# Altium integrated library allwinner.IntLib: 6 symbols
Pins are listed as number, name and electrical type; pins without a type are passive.

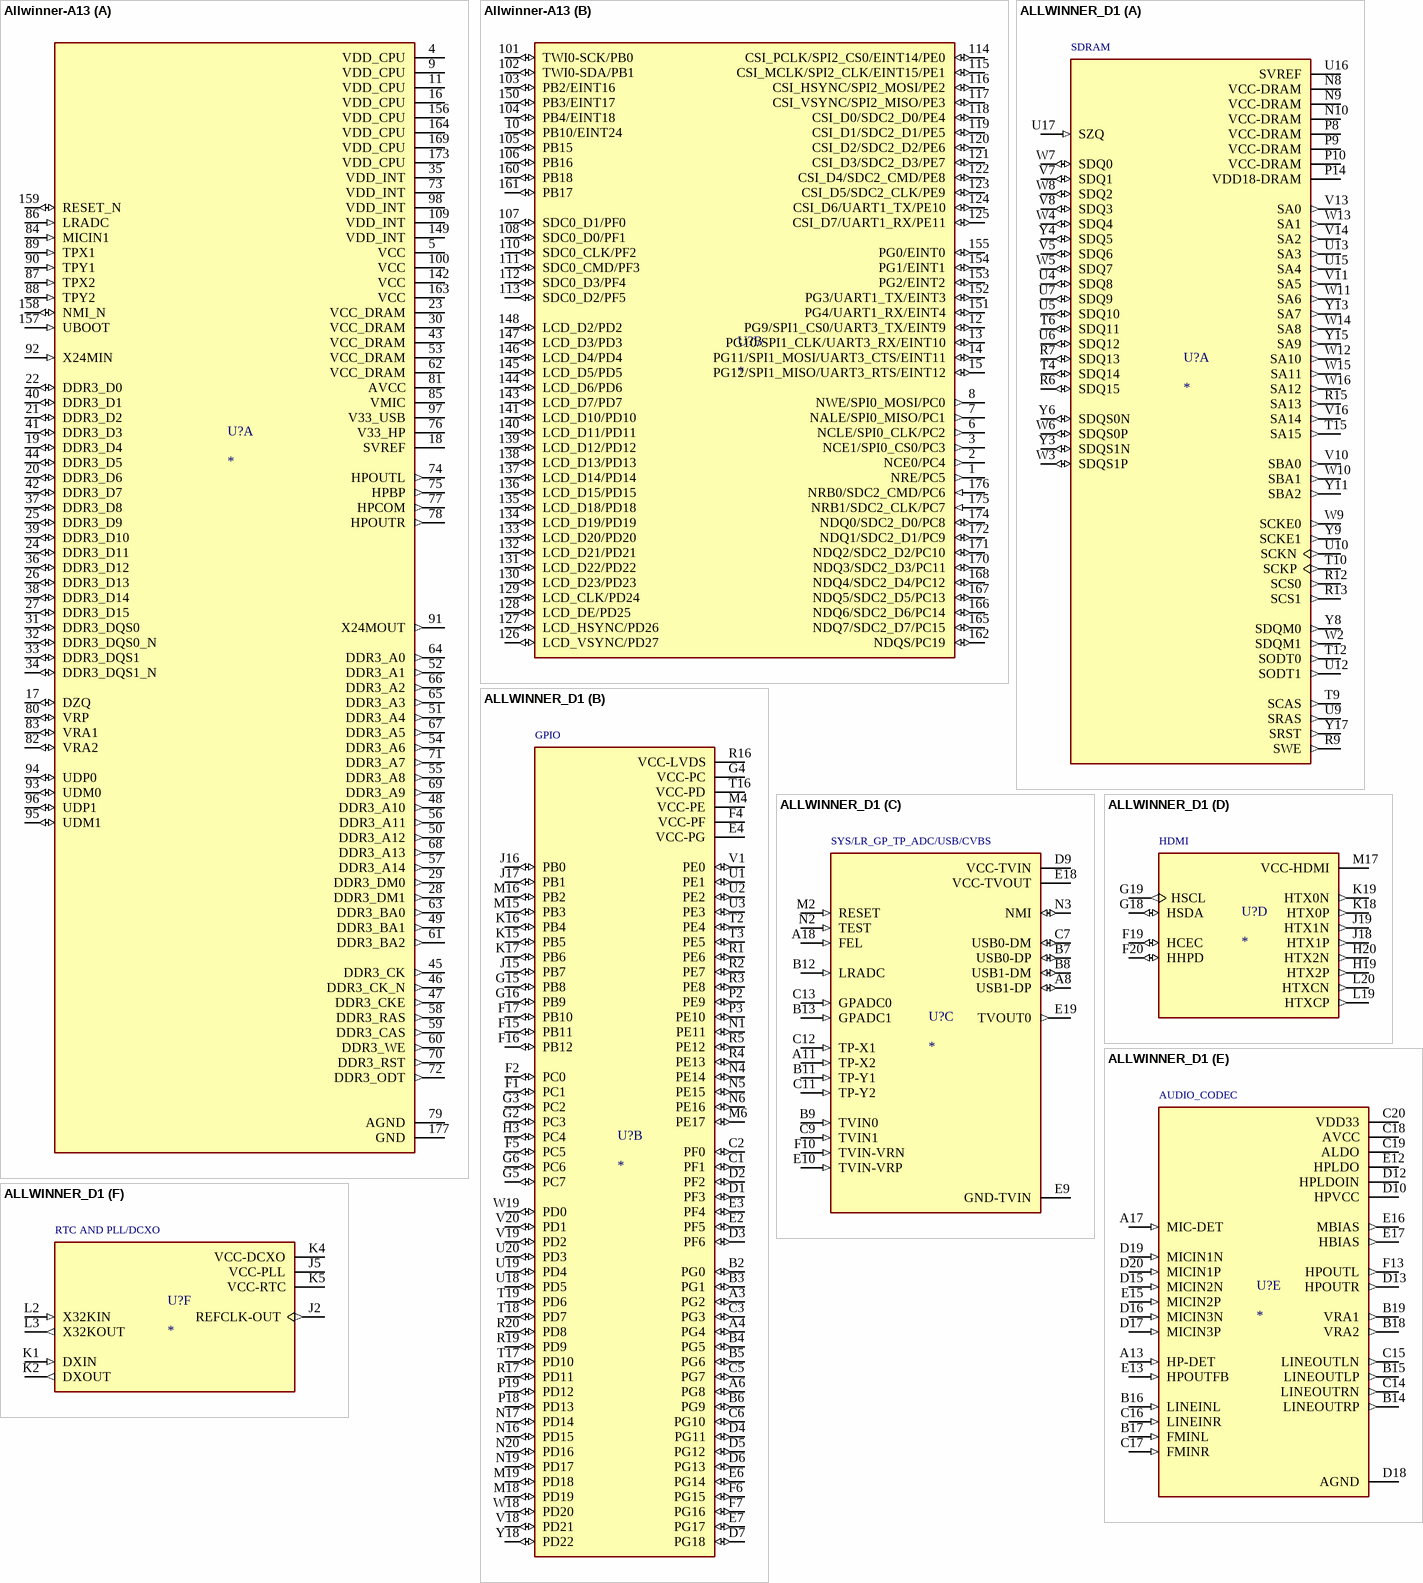
[diagram p0: symbols Allwinner-A13 to ALLWINNER_D1]

## Allwinner-A13
designator U?
Allwinner A13; MF: {'manufacturer': u'Allwinner Technology'}; MP: Allwinner-A13; Value: *; Package: None; Price: None; Availability: Unavailable
footprint QFP40P2200X2200X160-177N
part A pins: 4 VDD_CPU (power), 5 VCC (power), 9 VDD_CPU (power), 11 VDD_CPU (power), 16 VDD_CPU (power), 17 DZQ (io), 18 SVREF (power), 19 DDR3_D4 (io), 20 DDR3_D6 (io), 21 DDR3_D2 (io), 22 DDR3_D0 (io), 23 VCC_DRAM (power), 24 DDR3_D11 (io), 25 DDR3_D9 (io), 26 DDR3_D13 (io), 27 DDR3_D15 (io), 28 DDR3_DM1 (out), 29 DDR3_DM0 (out), 30 VCC_DRAM (power), 31 DDR3_DQS0 (io), 32 DDR3_DQS0_N (io), 33 DDR3_DQS1 (io), 34 DDR3_DQS1_N (io), 35 VDD_INT (power), 36 DDR3_D12 (io), 37 DDR3_D8 (io), 38 DDR3_D14 (io), 39 DDR3_D10 (io), 40 DDR3_D1 (io), 41 DDR3_D3 (io), 42 DDR3_D7 (io), 43 VCC_DRAM (power), 44 DDR3_D5 (io), 45 DDR3_CK (out), 46 DDR3_CK_N (out), 47 DDR3_CKE (out), 48 DDR3_A10 (out), 49 DDR3_BA1 (out), 50 DDR3_A12 (out), 51 DDR3_A4 (out), 52 DDR3_A1 (out), 53 VCC_DRAM (power), 54 DDR3_A6 (out), 55 DDR3_A8 (out), 56 DDR3_A11 (out), 57 DDR3_A14 (out), 58 DDR3_RAS (out), 59 DDR3_CAS (out), 60 DDR3_WE (out), 61 DDR3_BA2 (out), 62 VCC_DRAM (power), 63 DDR3_BA0 (out), 64 DDR3_A0 (out), 65 DDR3_A3 (out), 66 DDR3_A2 (out), 67 DDR3_A5 (out), 68 DDR3_A13 (out), 69 DDR3_A9 (out), 70 DDR3_RST (out), 71 DDR3_A7 (out), 72 DDR3_ODT (out), 73 VDD_INT (power), 74 HPOUTL (out), 75 HPBP (out), 76 V33_HP (power), 77 HPCOM (out), 78 HPOUTR (out), 79 AGND (power), 80 VRP (io), 81 AVCC (power), 82 VRA2 (io), 83 VRA1 (io), 84 MICIN1 (in), 85 VMIC (power), 86 LRADC (in), 87 TPX2 (in), 88 TPY2 (in), 89 TPX1 (in), 90 TPY1 (in), 91 X24MOUT (out), 92 X24MIN (in), 93 UDM0 (io), 94 UDP0 (io), 95 UDM1 (io), 96 UDP1 (io), 97 V33_USB (power), 98 VDD_INT (power), 100 VCC (power), 109 VDD_INT (power), 142 VCC (power), 149 VDD_INT (power), 156 VDD_CPU (power), 157 UBOOT (in), 158 NMI_N (io), 159 RESET_N (io), 163 VCC (power), 164 VDD_CPU (power), 169 VDD_CPU (power), 173 VDD_CPU (power), 177 GND (power)
part B pins: 1 NRE/PC5 (out), 2 NCE0/PC4 (out), 3 NCE1/SPI0_CS0/PC3 (out), 6 NCLE/SPI0_CLK/PC2 (out), 7 NALE/SPI0_MISO/PC1 (out), 8 NWE/SPI0_MOSI/PC0 (out), 10 PB10/EINT24 (io), 12 PG9/SPI1_CS0/UART3_TX/EINT9 (io), 13 PG10/SPI1_CLK/UART3_RX/EINT10 (io), 14 PG11/SPI1_MOSI/UART3_CTS/EINT11 (io), 15 PG12/SPI1_MISO/UART3_RTS/EINT12 (io), 101 TWI0-SCK/PB0 (io), 102 TWI0-SDA/PB1 (io), 103 PB2/EINT16 (io), 104 PB4/EINT18 (io), 105 PB15 (io), 106 PB16 (io), 107 SDC0_D1/PF0 (io), 108 SDC0_D0/PF1 (io), 110 SDC0_CLK/PF2 (io), 111 SDC0_CMD/PF3 (io), 112 SDC0_D3/PF4 (io), 113 SDC0_D2/PF5 (io), 114 CSI_PCLK/SPI2_CS0/EINT14/PE0 (io), 115 CSI_MCLK/SPI2_CLK/EINT15/PE1 (io), 116 CSI_HSYNC/SPI2_MOSI/PE2 (io), 117 CSI_VSYNC/SPI2_MISO/PE3 (io), 118 CSI_D0/SDC2_D0/PE4 (io), 119 CSI_D1/SDC2_D1/PE5 (io), 120 CSI_D2/SDC2_D2/PE6 (io), 121 CSI_D3/SDC2_D3/PE7 (io), 122 CSI_D4/SDC2_CMD/PE8 (io), 123 CSI_D5/SDC2_CLK/PE9 (io), 124 CSI_D6/UART1_TX/PE10 (io), 125 CSI_D7/UART1_RX/PE11 (io), 126 LCD_VSYNC/PD27 (io), 127 LCD_HSYNC/PD26 (io), 128 LCD_DE/PD25 (io), 129 LCD_CLK/PD24 (io), 130 LCD_D23/PD23 (io), 131 LCD_D22/PD22 (io), 132 LCD_D21/PD21 (io), 133 LCD_D20/PD20 (io), 134 LCD_D19/PD19 (io), 135 LCD_D18/PD18 (io), 136 LCD_D15/PD15 (io), 137 LCD_D14/PD14 (io), 138 LCD_D13/PD13 (io), 139 LCD_D12/PD12 (io), 140 LCD_D11/PD11 (io), 141 LCD_D10/PD10 (io), 143 LCD_D7/PD7 (io), 144 LCD_D6/PD6 (io), 145 LCD_D5/PD5 (io), 146 LCD_D4/PD4 (io), 147 LCD_D3/PD3 (io), 148 LCD_D2/PD2 (io), 150 PB3/EINT17 (io), 151 PG4/UART1_RX/EINT4 (io), 152 PG3/UART1_TX/EINT3 (io), 153 PG2/EINT2 (io), 154 PG1/EINT1 (io), 155 PG0/EINT0 (io), 160 PB18 (io), 161 PB17 (io), 162 NDQS/PC19 (io), 165 NDQ7/SDC2_D7/PC15 (io), 166 NDQ6/SDC2_D6/PC14 (io), 167 NDQ5/SDC2_D5/PC13 (io), 168 NDQ4/SDC2_D4/PC12 (io), 170 NDQ3/SDC2_D3/PC11 (io), 171 NDQ2/SDC2_D2/PC10 (io), 172 NDQ1/SDC2_D1/PC9 (io), 174 NDQ0/SDC2_D0/PC8 (io), 175 NRB1/SDC2_CLK/PC7 (in), 176 NRB0/SDC2_CMD/PC6 (in)

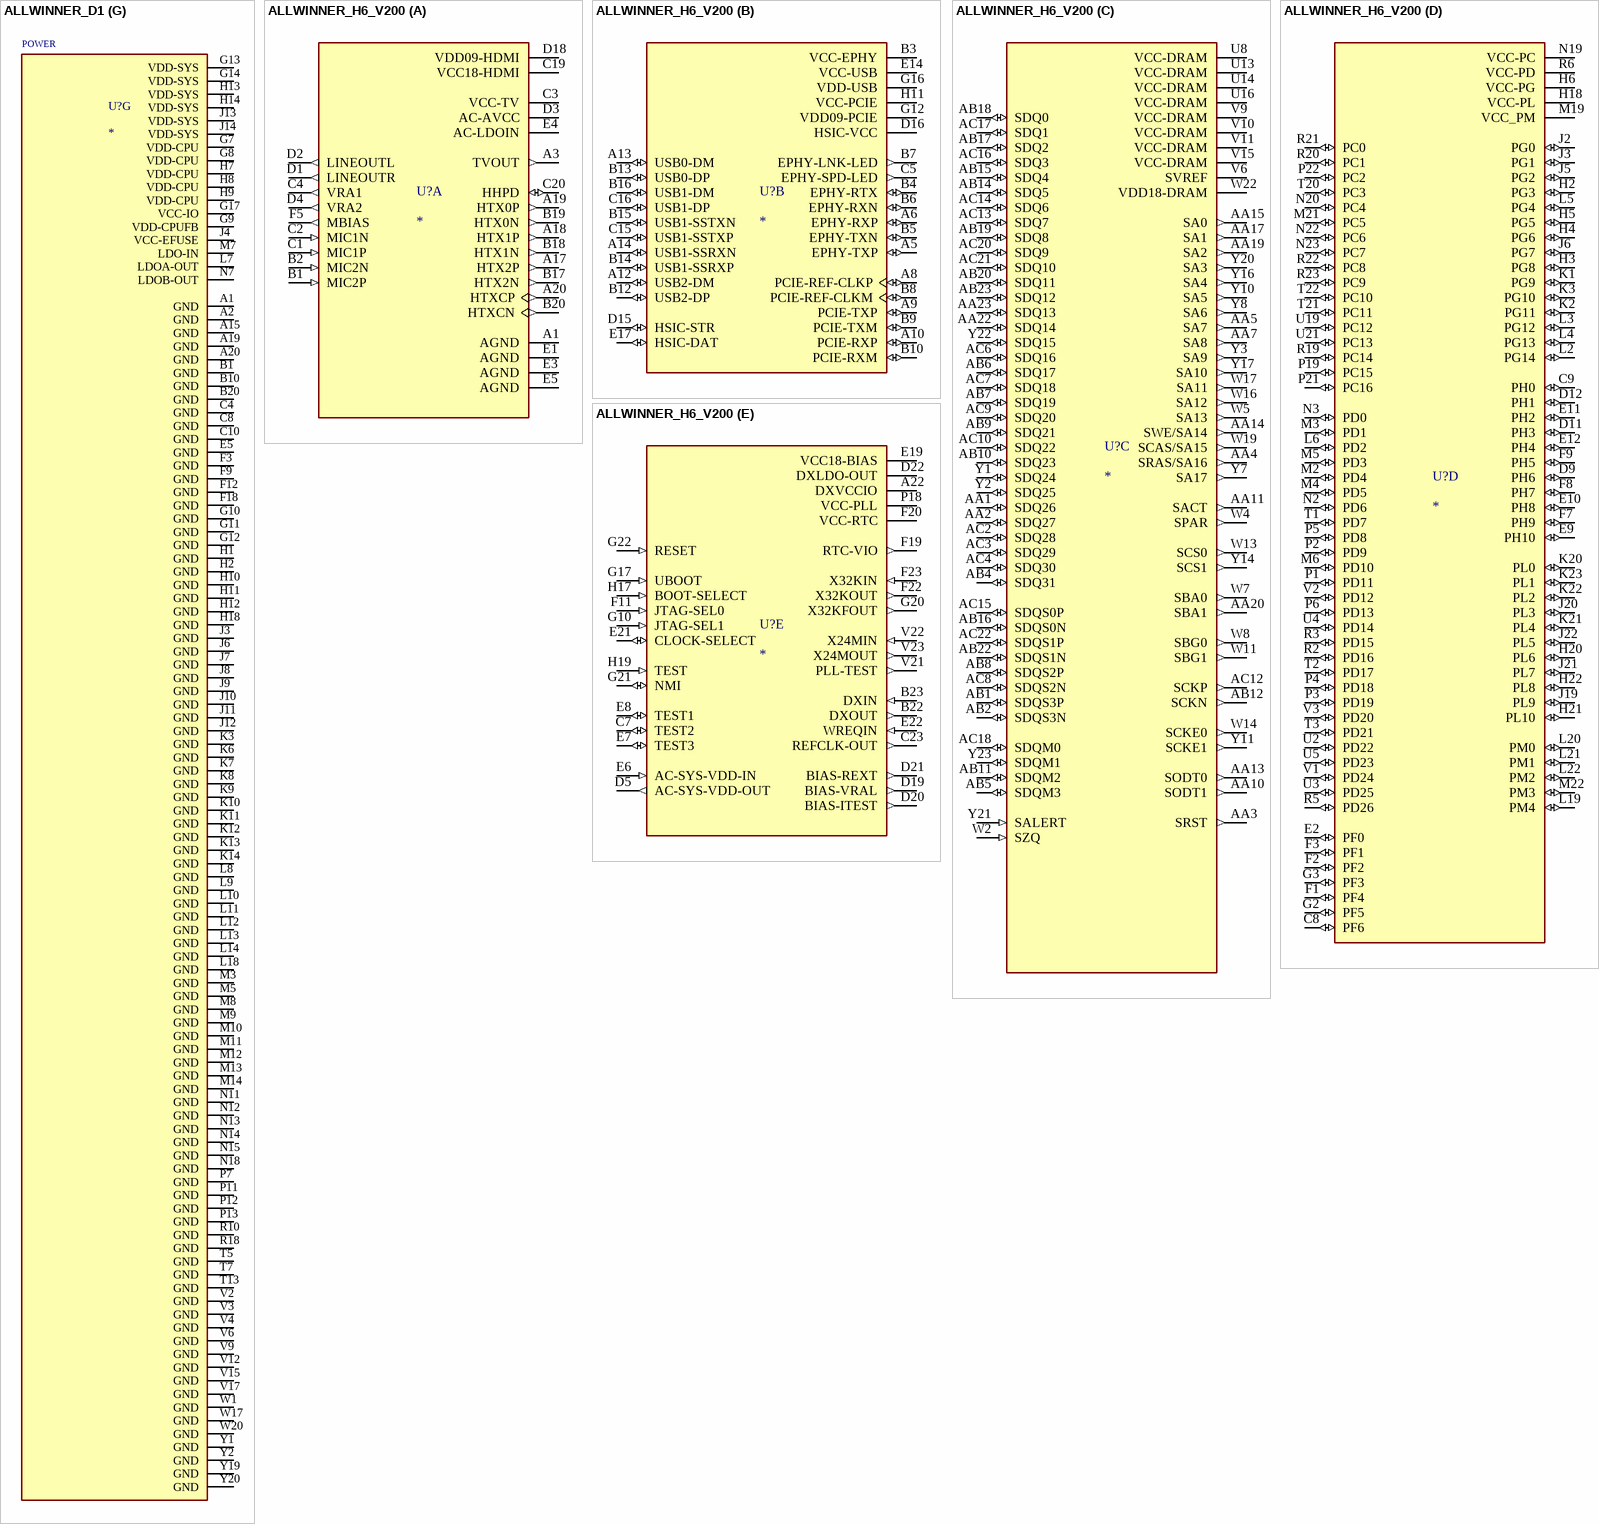
[diagram p1: symbols ALLWINNER_D1 to ALLWINNER_H6_V200]

## ALLWINNER_D1
designator U?
MF: {'manufacturer': u'Allwinner Technology'}; MP: ALLWINNER_D1; Availability: Unavailable; Value: *; Package: None; Price: None
footprint BGA337C65P20X20_1300X1300X133
part A pins: N8 VCC-DRAM (power), N9 VCC-DRAM (power), N10 VCC-DRAM (power), P8 VCC-DRAM (power), P9 VCC-DRAM (power), P10 VCC-DRAM (power), P14 VDD18-DRAM (power), R6 SDQ15 (io), R7 SDQ13 (io), R9 SWE (out), R12 SCS0 (out), R13 SCS1 (out), R15 SA13 (out), T4 SDQ14 (io), T6 SDQ11 (io), T9 SCAS (out), T10 SCKP (out), T12 SODT0 (out), T15 SA15 (out), U4 SDQ8 (io), U5 SDQ10 (io), U6 SDQ12 (io), U7 SDQ9 (io), U9 SRAS (out), U10 SCKN (out), U12 SODT1 (out), U13 SA3 (out), U15 SA4 (out), U16 SVREF (power), U17 SZQ (in), V5 SDQ6 (io), V7 SDQ1 (io), V8 SDQ3 (io), V10 SBA0 (out), V11 SA5 (out), V13 SA0 (out), V14 SA2 (out), V16 SA14 (out), W2 SDQM1 (out), W3 SDQS1P (io), W4 SDQ4 (io), W5 SDQ7 (io), W6 SDQS0P (io), W7 SDQ0 (io), W8 SDQ2 (io), W9 SCKE0 (out), W10 SBA1 (out), W11 SA6 (out), W12 SA10 (out), W13 SA1 (out), W14 SA8 (out), W15 SA11 (out), W16 SA12 (out), Y3 SDQS1N (io), Y4 SDQ5 (io), Y6 SDQS0N (io), Y8 SDQM0 (out), Y9 SCKE1 (out), Y11 SBA2 (out), Y13 SA7 (out), Y15 SA9 (out), Y17 SRST (out)
part B pins: A3 PG2 (io), A4 PG4 (io), A6 PG8 (io), B2 PG0 (io), B3 PG1 (io), B4 PG5 (io), B5 PG6 (io), B6 PG9 (io), C1 PF1 (io), C2 PF0 (io), C3 PG3 (io), C5 PG7 (io), C6 PG10 (io), D1 PF3 (io), D2 PF2 (io), D3 PF6 (io), D4 PG11 (io), D5 PG12 (io), D6 PG13 (io), D7 PG18 (io), E2 PF5 (io), E3 PF4 (io), E4 VCC-PG (power), E6 PG14 (io), E7 PG17 (io), F1 PC1 (io), F2 PC0 (io), F4 VCC-PF (power), F5 PC5 (io), F6 PG15 (io), F7 PG16 (io), F15 PB11 (io), F16 PB12 (io), F17 PB10 (io), G2 PC3 (io), G3 PC2 (io), G4 VCC-PC (power), G5 PC7 (io), G6 PC6 (io), G15 PB8 (io), G16 PB9 (io), H3 PC4 (io), J15 PB7 (io), J16 PB0 (io), J17 PB1 (io), K15 PB5 (io), K16 PB4 (io), K17 PB6 (io), M4 VCC-PE (power), M6 PE17 (io), M15 PB3 (io), M16 PB2 (io), M18 PD19 (io), M19 PD18 (io), N1 PE11 (io), N4 PE14 (io), N5 PE15 (io), N6 PE16 (io), N16 PD15 (io), N17 PD14 (io), N19 PD17 (io), N20 PD16 (io), P2 PE9 (io), P3 PE10 (io), P18 PD13 (io), P19 PD12 (io), R1 PE6 (io), R2 PE7 (io), R3 PE8 (io), R4 PE13 (io), R5 PE12 (io), R16 VCC-LVDS (power), R17 PD11 (io), R19 PD9 (io), R20 PD8 (io), T2 PE4 (io), T3 PE5 (io), T16 VCC-PD (power), T17 PD10 (io), T18 PD7 (io), T19 PD6 (io), U1 PE1 (io), U2 PE2 (io), U3 PE3 (io), U18 PD5 (io), U19 PD4 (io), U20 PD3 (io), V1 PE0 (io), V18 PD21 (io), V19 PD2 (io), V20 PD1 (io), W18 PD20 (io), W19 PD0 (io), Y18 PD22 (io)
part C pins: A8 USB1-DP (io), A11 TP-X2 (in), A18 FEL (in), B7 USB0-DP (io), B8 USB1-DM (io), B9 TVIN0 (in), B11 TP-Y1 (in), B12 LRADC (in), B13 GPADC1 (in), C7 USB0-DM (io), C9 TVIN1 (in), C11 TP-Y2 (in), C12 TP-X1 (in), C13 GPADC0 (in), D9 VCC-TVIN (power), E9 GND-TVIN (power), E10 TVIN-VRP (in), E18 VCC-TVOUT (power), E19 TVOUT0 (out), F10 TVIN-VRN (in), M2 RESET (in), N2 TEST (in), N3 NMI (io)
part D pins: F19 HCEC (io), F20 HHPD (io), G18 HSDA (io), G19 HSCL (out), H19 HTX2P (out), H20 HTX2N (out), J18 HTX1P (out), J19 HTX1N (out), K18 HTX0P (out), K19 HTX0N (out), L19 HTXCP (out), L20 HTXCN (out), M17 VCC-HDMI (power)
part E pins: A13 HP-DET (in), A17 MIC-DET (in), B14 LINEOUTRP (out), B15 LINEOUTLP (out), B16 LINEINL (in), B17 FMINL (in), B18 VRA2 (out), B19 VRA1 (out), C14 LINEOUTRN (out), C15 LINEOUTLN (out), C16 LINEINR (in), C17 FMINR (in), C18 AVCC (power), C19 ALDO (power), C20 VDD33 (power), D10 HPVCC (power), D12 HPLDOIN (power), D13 HPOUTR (out), D15 MICIN2N (in), D16 MICIN3N (in), D17 MICIN3P (in), D18 AGND (power), D19 MICIN1N (in), D20 MICIN1P (in), E12 HPLDO (power), E13 HPOUTFB (in), E15 MICIN2P (in), E16 MBIAS (out), E17 HBIAS (out), F13 HPOUTL (out)
part F pins: J2 REFCLK-OUT (out), J5 VCC-PLL (power), K1 DXIN (in), K2 DXOUT (out), K4 VCC-DCXO (power), K5 VCC-RTC (power), L2 X32KIN (in), L3 X32KOUT (out)
part G pins: A1 GND (power), A2 GND (power), A15 GND (power), A19 GND (power), A20 GND (power), B1 GND (power), B10 GND (power), B20 GND (power), C4 GND (power), C8 GND (power), C10 GND (power), E5 GND (power), F3 GND (power), F9 GND (power), F12 GND (power), F18 GND (power), G7 VDD-CPU (power), G8 VDD-CPU (power), G9 VDD-CPUFB (power), G10 GND (power), G11 GND (power), G12 GND (power), G13 VDD-SYS (power), G14 VDD-SYS (power), G17 VCC-IO (power), H1 GND (power), H2 GND (power), H7 VDD-CPU (power), H8 VDD-CPU (power), H9 VDD-CPU (power), H10 GND (power), H11 GND (power), H12 GND (power), H13 VDD-SYS (power), H14 VDD-SYS (power), H18 GND (power), J3 GND (power), J4 VCC-EFUSE (power), J6 GND (power), J7 GND (power), J8 GND (power), J9 GND (power), J10 GND (power), J11 GND (power), J12 GND (power), J13 VDD-SYS (power), J14 VDD-SYS (power), K3 GND (power), K6 GND (power), K7 GND (power), K8 GND (power), K9 GND (power), K10 GND (power), K11 GND (power), K12 GND (power), K13 GND (power), K14 GND (power), L7 LDOA-OUT (power), L8 GND (power), L9 GND (power), L10 GND (power), L11 GND (power), L12 GND (power), L13 GND (power), L14 GND (power), L18 GND (power), M3 GND (power), M5 GND (power), M7 LDO-IN (power), M8 GND (power), M9 GND (power), M10 GND (power), M11 GND (power), M12 GND (power), M13 GND (power), M14 GND (power), N7 LDOB-OUT (power), N11 GND (power), N12 GND (power), N13 GND (power), N14 GND (power), N15 GND (power), N18 GND (power), P7 GND (power), P11 GND (power), P12 GND (power), P13 GND (power), R10 GND (power), R18 GND (power), T5 GND (power), T7 GND (power), T13 GND (power), V2 GND (power), V3 GND (power), V4 GND (power), V6 GND (power), V9 GND (power), V12 GND (power), V15 GND (power), V17 GND (power), W1 GND (power), W17 GND (power), W20 GND (power), Y1 GND (power), Y2 GND (power), Y19 GND (power), Y20 GND (power)
part A text: SDRAM
part B text: GPIO
part C text: SYS/LR_GP_TP_ADC/USB/CVBS
part D text: HDMI
part E text: AUDIO_CODEC
part F text: RTC AND PLL/DCXO
part G text: POWER

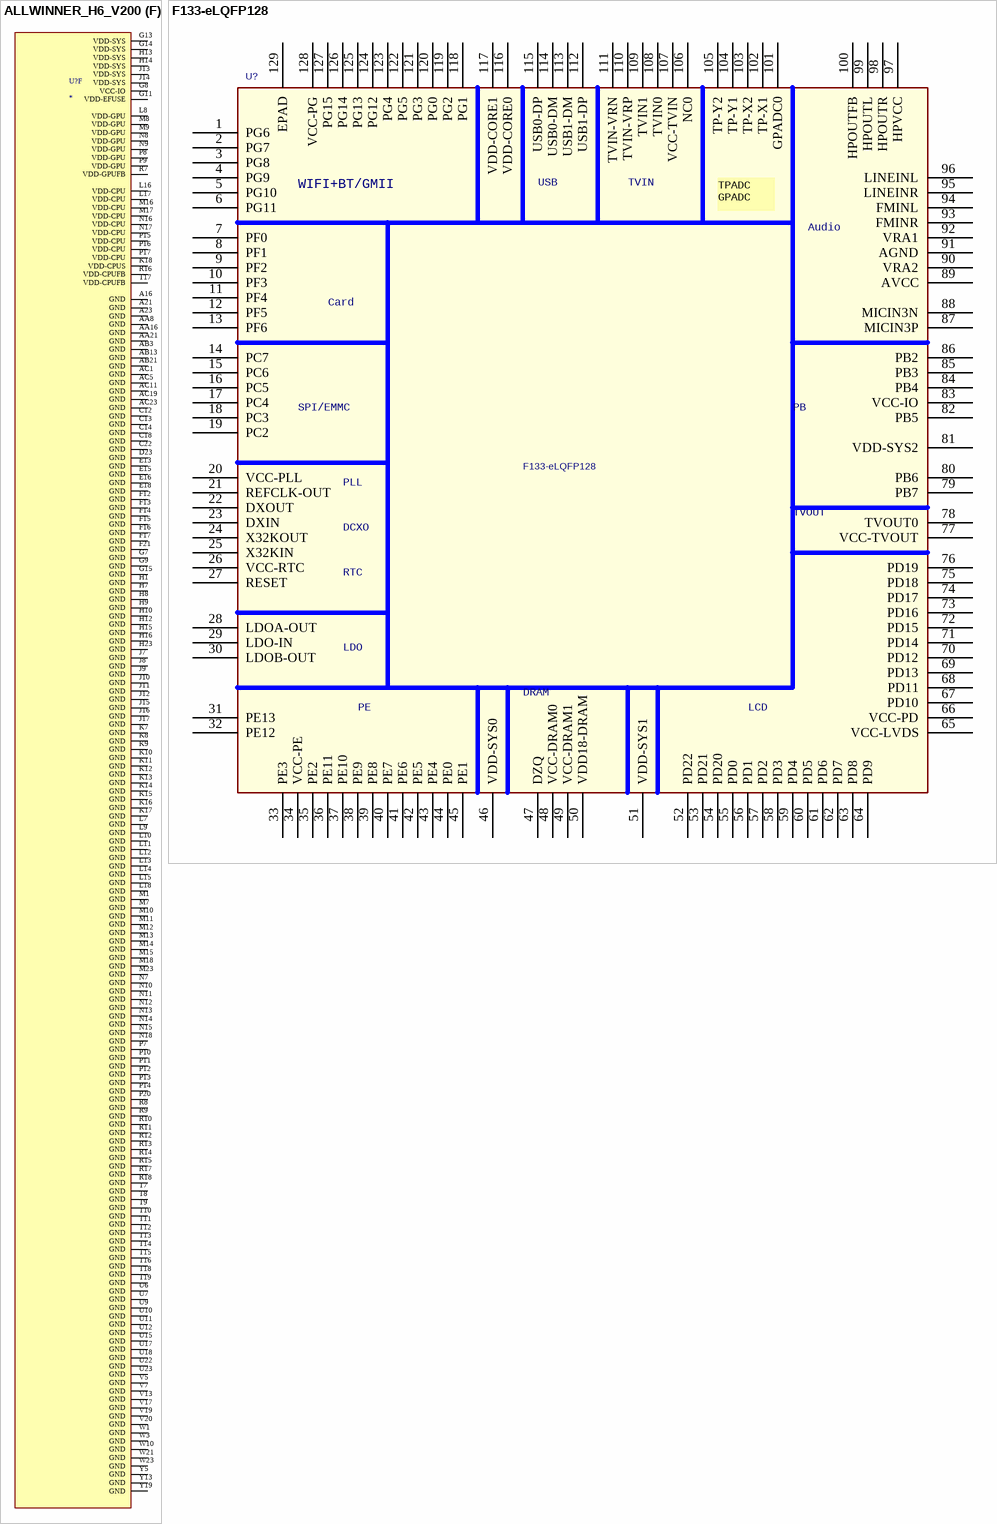
[diagram p2: symbols ALLWINNER_H6_V200 to F133-eLQFP128]

## ALLWINNER_H6_V200
designator U?
Quad-Core OTT Box Processor; MF: {'manufacturer': u'Allwinner Technology'}; MP: ALLWINNER_H6_V200; Price: None; Availability: Unavailable; Value: *; Package: None
part A pins: A1 AGND (power), A3 TVOUT (out), A17 HTX2P (out), A18 HTX1P (out), A19 HTX0P (out), A20 HTXCP (out), B1 MIC2P (in), B2 MIC2N (in), B17 HTX2N (out), B18 HTX1N (out), B19 HTX0N (out), B20 HTXCN (out), C1 MIC1P (in), C2 MIC1N (in), C3 VCC-TV (power), C4 VRA1 (out), C19 VCC18-HDMI (power), C20 HHPD (io), D1 LINEOUTR (out), D2 LINEOUTL (out), D3 AC-AVCC (power), D4 VRA2 (out), D18 VDD09-HDMI (power), E1 AGND (power), E3 AGND (power), E4 AC-LDOIN (power), E5 AGND (power), F5 MBIAS (out)
part B pins: A5 EPHY-TXP (io), A6 EPHY-RXP (io), A8 PCIE-REF-CLKP (io), A9 PCIE-TXP (io), A10 PCIE-RXP (io), A12 USB2-DM (io), A13 USB0-DM (io), A14 USB1-SSRXN (io), B3 VCC-EPHY (power), B4 EPHY-RTX (io), B5 EPHY-TXN (io), B6 EPHY-RXN (io), B7 EPHY-LNK-LED (out), B8 PCIE-REF-CLKM (io), B9 PCIE-TXM (io), B10 PCIE-RXM (io), B12 USB2-DP (io), B13 USB0-DP (io), B14 USB1-SSRXP (io), B15 USB1-SSTXN (io), B16 USB1-DM (io), C5 EPHY-SPD-LED (out), C15 USB1-SSTXP (io), C16 USB1-DP (io), D15 HSIC-STR (io), D16 HSIC-VCC (power), E14 VCC-USB (power), E17 HSIC-DAT (io), G12 VDD09-PCIE (power), G16 VDD-USB (power), H11 VCC-PCIE (power)
part C pins: AA1 SDQ26 (io), AA2 SDQ27 (io), AA3 SRST (out), AA4 SRAS/SA16 (out), AA5 SA7 (out), AA7 SA8 (out), AA10 SODT1 (out), AA11 SACT (out), AA13 SODT0 (out), AA14 SWE/SA14 (out), AA15 SA0 (out), AA17 SA1 (out), AA19 SA2 (out), AA20 SBA1 (out), AA22 SDQ14 (io), AA23 SDQ13 (io), AB1 SDQS3P (io), AB2 SDQS3N (io), AB4 SDQ31 (io), AB5 SDQM3 (io), AB6 SDQ17 (io), AB7 SDQ19 (io), AB8 SDQS2P (io), AB9 SDQ21 (io), AB10 SDQ23 (io), AB11 SDQM2 (io), AB12 SCKN (out), AB14 SDQ5 (io), AB15 SDQ4 (io), AB16 SDQS0N (io), AB17 SDQ2 (io), AB18 SDQ0 (io), AB19 SDQ8 (io), AB20 SDQ11 (io), AB22 SDQS1N (io), AB23 SDQ12 (io), AC2 SDQ28 (io), AC3 SDQ29 (io), AC4 SDQ30 (io), AC6 SDQ16 (io), AC7 SDQ18 (io), AC8 SDQS2N (io), AC9 SDQ20 (io), AC10 SDQ22 (io), AC12 SCKP (out), AC13 SDQ7 (io), AC14 SDQ6 (io), AC15 SDQS0P (io), AC16 SDQ3 (io), AC17 SDQ1 (io), AC18 SDQM0 (io), AC20 SDQ9 (io), AC21 SDQ10 (io), AC22 SDQS1P (io), U8 VCC-DRAM (power), U13 VCC-DRAM (power), U14 VCC-DRAM (power), U16 VCC-DRAM (power), V6 SVREF (power), V9 VCC-DRAM (power), V10 VCC-DRAM (power), V11 VCC-DRAM (power), V15 VCC-DRAM (power), W2 SZQ (in), W4 SPAR (out), W5 SA13 (out), W7 SBA0 (out), W8 SBG0 (out), W11 SBG1 (out), W13 SCS0 (out), W14 SCKE0 (out), W16 SA12 (out), W17 SA11 (out), W19 SCAS/SA15 (out), W22 VDD18-DRAM (power), Y1 SDQ24 (io), Y2 SDQ25 (io), Y3 SA9 (out), Y7 SA17 (out), Y8 SA6 (out), Y10 SA5 (out), Y11 SCKE1 (out), Y14 SCS1 (out), Y16 SA4 (out), Y17 SA10 (out), Y20 SA3 (out), Y21 SALERT (in), Y22 SDQ15 (io), Y23 SDQM1 (io)
part D pins: C8 PF6 (io), C9 PH0 (io), D9 PH6 (io), D11 PH3 (io), D12 PH1 (io), E2 PF0 (io), E9 PH10 (io), E10 PH8 (io), E11 PH2 (io), E12 PH4 (io), F1 PF4 (io), F2 PF2 (io), F3 PF1 (io), F7 PH9 (io), F8 PH7 (io), F9 PH5 (io), G2 PF5 (io), G3 PF3 (io), H2 PG3 (io), H3 PG8 (io), H4 PG6 (io), H5 PG5 (io), H6 VCC-PG (power), H18 VCC-PL (power), H20 PL6 (io), H21 PL10 (io), H22 PL8 (io), J2 PG0 (io), J3 PG1 (io), J5 PG2 (io), J6 PG7 (io), J19 PL9 (io), J20 PL3 (io), J21 PL7 (io), J22 PL5 (io), K1 PG9 (io), K2 PG11 (io), K3 PG10 (io), K20 PL0 (io), K21 PL4 (io), K22 PL2 (io), K23 PL1 (io), L2 PG14 (io), L3 PG12 (io), L4 PG13 (io), L5 PG4 (io), L6 PD2 (io), L19 PM4 (io), L20 PM0 (io), L21 PM1 (io), L22 PM2 (io), M2 PD4 (io), M3 PD1 (io), M4 PD5 (io), M5 PD3 (io), M6 PD10 (io), M19 VCC_PM (power), M21 PC5 (io), M22 PM3 (io), N2 PD6 (io), N3 PD0 (io), N19 VCC-PC (power), N20 PC4 (io), N22 PC6 (io), N23 PC7 (io), P1 PD11 (io), P2 PD9 (io), P3 PD19 (io), P4 PD18 (io), P5 PD8 (io), P6 PD13 (io), P19 PC15 (io), P21 PC16 (io), P22 PC2 (io), R2 PD16 (io), R3 PD15 (io), R5 PD26 (io), R6 VCC-PD (power), R19 PC14 (io), R20 PC1 (io), R21 PC0 (io), R22 PC8 (io), R23 PC9 (io), T1 PD7 (io), T2 PD17 (io), T3 PD21 (io), T20 PC3 (io), T21 PC11 (io), T22 PC10 (io), U2 PD22 (io), U3 PD25 (io), U4 PD14 (io), U5 PD23 (io), U19 PC12 (io), U21 PC13 (io), V1 PD24 (io), V2 PD12 (io), V3 PD20 (io)
part E pins: A22 DXVCCIO (power), B22 DXOUT (out), B23 DXIN (in), C7 TEST2 (io), C23 REFCLK-OUT (out), D5 AC-SYS-VDD-OUT (out), D19 BIAS-VRAL (out), D20 BIAS-ITEST (out), D21 BIAS-REXT (out), D22 DXLDO-OUT (power), E6 AC-SYS-VDD-IN (in), E7 TEST3 (io), E8 TEST1 (io), E19 VCC18-BIAS (power), E21 CLOCK-SELECT (io), E22 WREQIN (in), F11 JTAG-SEL0 (in), F19 RTC-VIO (out), F20 VCC-RTC (power), F22 X32KOUT (out), F23 X32KIN (in), G10 JTAG-SEL1 (in), G17 UBOOT (in), G20 X32KFOUT (out), G21 NMI (io), G22 RESET (in), H17 BOOT-SELECT (in), H19 TEST (in), P18 VCC-PLL (power), V21 PLL-TEST (out), V22 X24MIN (in), V23 X24MOUT (out)
part F pins: A16 GND (power), A21 GND (power), A23 GND (power), AA8 GND (power), AA16 GND (power), AA21 GND (power), AB3 GND (power), AB13 GND (power), AB21 GND (power), AC1 GND (power), AC5 GND (power), AC11 GND (power), AC19 GND (power), AC23 GND (power), C12 GND (power), C13 GND (power), C14 GND (power), C18 GND (power), C22 GND (power), D23 GND (power), E13 GND (power), E15 GND (power), E16 GND (power), E18 GND (power), F12 GND (power), F13 GND (power), F14 GND (power), F15 GND (power), F16 GND (power), F17 GND (power), F21 GND (power), G7 GND (power), G8 VCC-IO (power), G9 GND (power), G11 VDD-EFUSE (power), G13 VDD-SYS (power), G14 VDD-SYS (power), G15 GND (power), H1 GND (power), H7 GND (power), H8 GND (power), H9 GND (power), H10 GND (power), H12 GND (power), H13 VDD-SYS (power), H14 VDD-SYS (power), H15 GND (power), H16 GND (power), H23 GND (power), J7 GND (power), J8 GND (power), J9 GND (power), J10 GND (power), J11 GND (power), J12 GND (power), J13 VDD-SYS (power), J14 VDD-SYS (power), J15 GND (power), J16 GND (power), J17 GND (power), K7 GND (power), K8 GND (power), K9 GND (power), K10 GND (power), K11 GND (power), K12 GND (power), K13 GND (power), K14 GND (power), K15 GND (power), K16 GND (power), K17 GND (power), K18 VDD-CPUS (power), L7 GND (power), L8 VDD-GPU (power), L9 GND (power), L10 GND (power), L11 GND (power), L12 GND (power), L13 GND (power), L14 GND (power), L15 GND (power), L16 VDD-CPU (power), L17 VDD-CPU (power), L18 GND (power), M1 GND (power), M7 GND (power), M8 VDD-GPU (power), M9 VDD-GPU (power), M10 GND (power), M11 GND (power), M12 GND (power), M13 GND (power), M14 GND (power), M15 GND (power), M16 VDD-CPU (power), M17 VDD-CPU (power), M18 GND (power), M23 GND (power), N7 GND (power), N8 VDD-GPU (power), N9 VDD-GPU (power), N10 GND (power), N11 GND (power), N12 GND (power), N13 GND (power), N14 GND (power), N15 GND (power), N16 VDD-CPU (power), N17 VDD-CPU (power), N18 GND (power), P7 GND (power), P8 VDD-GPU (power), P9 VDD-GPU (power), P10 GND (power), P11 GND (power), P12 GND (power), P13 GND (power), P14 GND (power), P15 VDD-CPU (power), P16 VDD-CPU (power), P17 VDD-CPU (power), P20 GND (power), R7 VDD-GPUFB (power), R8 GND (power), R9 GND (power), R10 GND (power), R11 GND (power), R12 GND (power), R13 GND (power), R14 GND (power), R15 GND (power), R16 VDD-CPUFB (power), R17 GND (power), R18 GND (power), T7 GND (power), T8 GND (power), T9 GND (power), T10 GND (power), T11 GND (power), T12 GND (power), T13 GND (power), T14 GND (power), T15 GND (power), T16 GND (power), T17 VDD-CPUFB (power), T18 GND (power), T19 GND (power), U6 GND (power), U7 GND (power), U9 GND (power), U10 GND (power), U11 GND (power), U12 GND (power), U15 GND (power), U17 GND (power), U18 GND (power), U22 GND (power), U23 GND (power), V5 GND (power), V7 GND (power), V13 GND (power), V17 GND (power), V19 GND (power), V20 GND (power), W1 GND (power), W3 GND (power), W10 GND (power), W21 GND (power), W23 GND (power), Y5 GND (power), Y13 GND (power), Y19 GND (power)

## F133-eLQFP128
designator U?
footprint QFP129P40B1600_1600H160
pins: 1 PG6, 2 PG7, 3 PG8, 4 PG9, 5 PG10, 6 PG11, 7 PF0, 8 PF1, 9 PF2, 10 PF3, 11 PF4, 12 PF5, 13 PF6, 14 PC7, 15 PC6, 16 PC5, 17 PC4, 18 PC3, 19 PC2, 20 VCC-PLL, 21 REFCLK-OUT, 22 DXOUT, 23 DXIN, 24 X32KOUT, 25 X32KIN, 26 VCC-RTC, 27 RESET, 28 LDOA-OUT, 29 LDO-IN, 30 LDOB-OUT, 31 PE13, 32 PE12, 33 PE3, 34 VCC-PE, 35 PE2, 36 PE11, 37 PE10, 38 PE9, 39 PE8, 40 PE7, 41 PE6, 42 PE5, 43 PE4, 44 PE0, 45 PE1, 46 VDD-SYS0, 47 DZQ, 48 VCC-DRAM0, 49 VCC-DRAM1, 50 VDD18-DRAM, 51 VDD-SYS1, 52 PD22, 53 PD21, 54 PD20, 55 PD0, 56 PD1, 57 PD2, 58 PD3, 59 PD4, 60 PD5, 61 PD6, 62 PD7, 63 PD8, 64 PD9, 65 VCC-LVDS, 66 VCC-PD, 67 PD10, 68 PD11, 69 PD13, 70 PD12, 71 PD14, 72 PD15, 73 PD16, 74 PD17, 75 PD18, 76 PD19, 77 VCC-TVOUT, 78 TVOUT0, 79 PB7, 80 PB6, 81 VDD-SYS2, 82 PB5, 83 VCC-IO, 84 PB4, 85 PB3, 86 PB2, 87 MICIN3P, 88 MICIN3N, 89 AVCC, 90 VRA2, 91 AGND, 92 VRA1, 93 FMINR, 94 FMINL, 95 LINEINR, 96 LINEINL, 97 HPVCC, 98 HPOUTR, 99 HPOUTL, 100 HPOUTFB, 101 GPADC0, 102 TP-X1, 103 TP-X2, 104 TP-Y1, 105 TP-Y2, 106 NC0, 107 VCC-TVIN, 108 TVIN0, 109 TVIN1, 110 TVIN-VRP, 111 TVIN-VRN, 112 USB1-DP, 113 USB1-DM, 114 USB0-DM, 115 USB0-DP, 116 VDD-CORE0, 117 VDD-CORE1, 118 PG1, 119 PG2, 120 PG0, 121 PG3, 122 PG5, 123 PG4, 124 PG12, 125 PG13, 126 PG14, 127 PG15, 128 VCC-PG, 129 EPAD
text: WIFI+BT/GMII; USB; TVIN; TPADC / GPADC; Audio; Card; SPI/EMMC; PB; PLL; TVOUT; DCXO; RTC; LDO; DRAM; PE; LCD

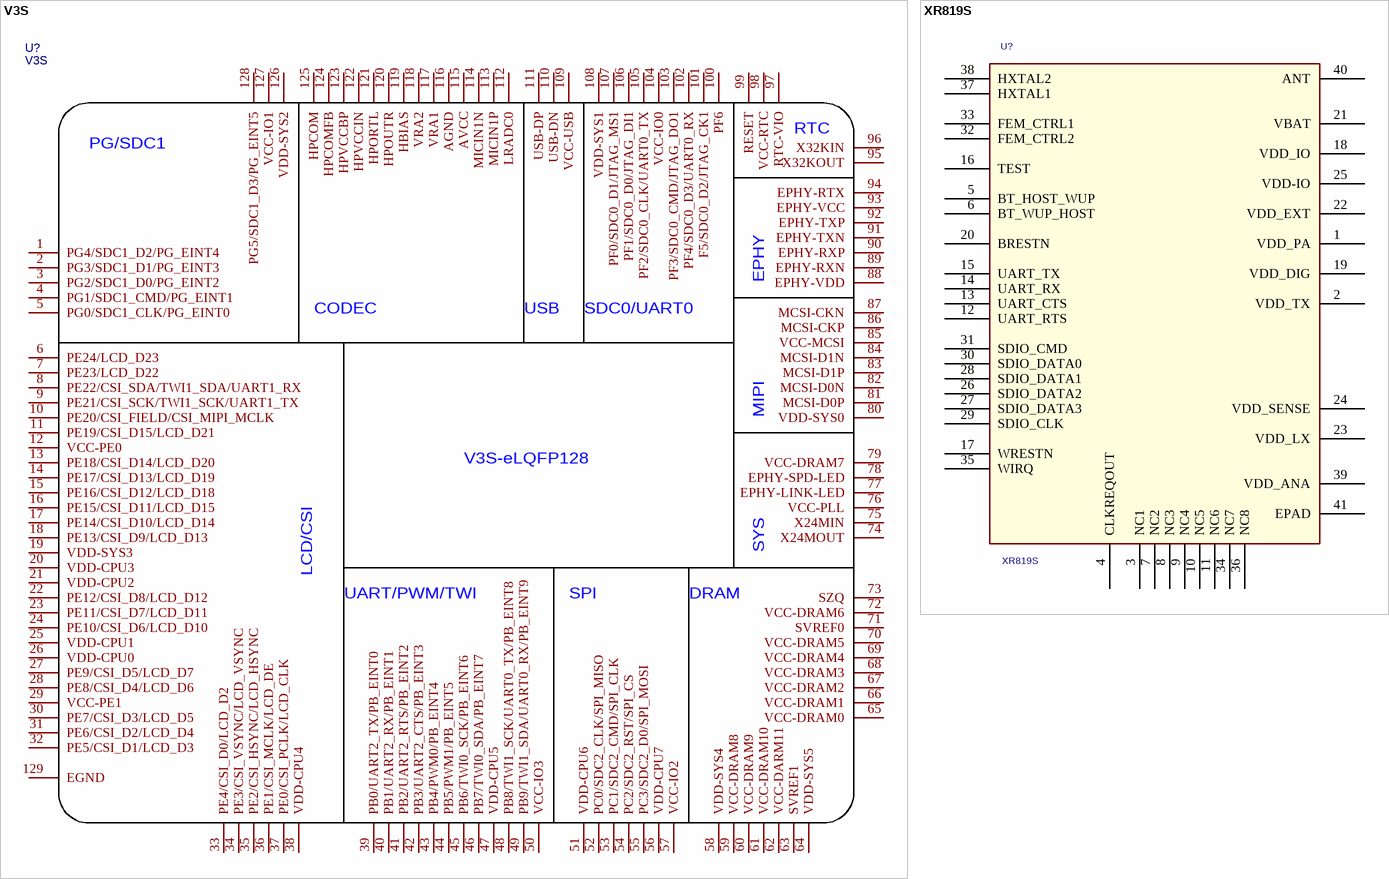
[diagram p3: symbols V3S to XR819S]

## V3S
designator U?
BOM_Manufacturer: Allwinner; Contributor: liefyuan; spicePre: U; spiceSymbolName: V3S
footprint LQFP-128_14X14X04P_V3S_XT
pins: 1 PG4/SDC1_D2/PG_EINT4, 2 PG3/SDC1_D1/PG_EINT3, 3 PG2/SDC1_D0/PG_EINT2, 4 PG1/SDC1_CMD/PG_EINT1, 5 PG0/SDC1_CLK/PG_EINT0, 6 PE24/LCD_D23, 7 PE23/LCD_D22, 8 PE22/CSI_SDA/TWI1_SDA/UART1_RX, 9 PE21/CSI_SCK/TWI1_SCK/UART1_TX, 10 PE20/CSI_FIELD/CSI_MIPI_MCLK, 11 PE19/CSI_D15/LCD_D21, 12 VCC-PE0, 13 PE18/CSI_D14/LCD_D20, 14 PE17/CSI_D13/LCD_D19, 15 PE16/CSI_D12/LCD_D18, 16 PE15/CSI_D11/LCD_D15, 17 PE14/CSI_D10/LCD_D14, 18 PE13/CSI_D9/LCD_D13, 19 VDD-SYS3, 20 VDD-CPU3, 21 VDD-CPU2, 22 PE12/CSI_D8/LCD_D12, 23 PE11/CSI_D7/LCD_D11, 24 PE10/CSI_D6/LCD_D10, 25 VDD-CPU1, 26 VDD-CPU0, 27 PE9/CSI_D5/LCD_D7, 28 PE8/CSI_D4/LCD_D6, 29 VCC-PE1, 30 PE7/CSI_D3/LCD_D5, 31 PE6/CSI_D2/LCD_D4, 32 PE5/CSI_D1/LCD_D3, 33 PE4/CSI_D0/LCD_D2, 34 PE3/CSI_VSYNC/LCD_VSYNC, 35 PE2/CSI_HSYNC/LCD_HSYNC, 36 PE1/CSI_MCLK/LCD_DE, 37 PE0/CSI_PCLK/LCD_CLK, 38 VDD-CPU4, 39 PB0/UART2_TX/PB_EINT0, 40 PB1/UART2_RX/PB_EINT1, 41 PB2/UART2_RTS/PB_EINT2, 42 PB3/UART2_CTS/PB_EINT3, 43 PB4/PWM0/PB_EINT4, 44 PB5/PWM1/PB_EINT5, 45 PB6/TWI0_SCK/PB_EINT6, 46 PB7/TWI0_SDA/PB_EINT7, 47 VDD-CPU5, 48 PB8/TWI1_SCK/UART0_TX/PB_EINT8, 49 PB9/TWI1_SDA/UART0_RX/PB_EINT9, 50 VCC-IO3, 51 VDD-CPU6, 52 PC0/SDC2_CLK/SPI_MISO, 53 PC1/SDC2_CMD/SPI_CLK, 54 PC2/SDC2_RST/SPI_CS, 55 PC3/SDC2_D0/SPI_MOSI, 56 VDD-CPU7, 57 VCC-IO2, 58 VDD-SYS4, 59 VCC-DRAM8, 60 VCC-DRAM9, 61 VCC-DRAM10, 62 VCC-DARM11, 63 SVREF1, 64 VDD-SYS5, 65 VCC-DRAM0, 66 VCC-DRAM1, 67 VCC-DRAM2, 68 VCC-DRAM3, 69 VCC-DRAM4, 70 VCC-DRAM5, 71 SVREF0, 72 VCC-DRAM6, 73 SZQ, 74 X24MOUT, 75 X24MIN, 76 VCC-PLL, 77 EPHY-LINK-LED, 78 EPHY-SPD-LED, 79 VCC-DRAM7, 80 VDD-SYS0, 81 MCSI-D0P, 82 MCSI-D0N, 83 MCSI-D1P, 84 MCSI-D1N, 85 VCC-MCSI, 86 MCSI-CKP, 87 MCSI-CKN, 88 EPHY-VDD, 89 EPHY-RXN, 90 EPHY-RXP, 91 EPHY-TXN, 92 EPHY-TXP, 93 EPHY-VCC, 94 EPHY-RTX, 95 X32KOUT, 96 X32KIN, 97 RTC-VIO, 98 VCC-RTC, 99 RESET, 100 PF6, 101 F5/SDC0_D2/JTAG_CK1, 102 PF4/SDC0_D3/UART0_RX, 103 PF3/SDC0_CMD/JTAG_DO1, 104 VCC-IO0, 105 PF2/SDC0_CLK/UART0_TX, 106 PF1/SDC0_D0/JTAG_DI1, 107 PF0/SDC0_D1/JTAG_MS1, 108 VDD-SYS1, 109 VCC-USB, 110 USB-DN, 111 USB-DP, 112 LRADC0, 113 MICIN1P, 114 MICIN1N, 115 AVCC, 116 AGND, 117 VRA1, 118 VRA2, 119 HBIAS, 120 HPOUTR, 121 HPORTL, 122 HPVCCIN, 123 HPVCCBP, 124 HPCOMFB, 125 HPCOM, 126 VDD-SYS2, 127 VCC-IO1, 128 PG5/SDC1_D3/PG_EINT5, 129 EGND
text: RTC; PG/SDC1; EPHY; CODEC; USB; SDC0/UART0; MIPI; V3S-eLQFP128; SYS; LCD/CSI; UART/PWM/TWI; SPI; DRAM

## XR819S
designator U?
footprint QFN41P40B500_500H85
pins: 1 VDD_PA, 2 VDD_TX, 3 NC1, 4 CLKREQOUT, 5 BT_HOST_WUP, 6 BT_WUP_HOST, 7 NC2, 8 NC3, 9 NC4, 10 NC5, 11 NC6, 12 UART_RTS, 13 UART_CTS, 14 UART_RX, 15 UART_TX, 16 TEST, 17 WRESTN, 18 VDD_IO, 19 VDD_DIG, 20 BRESTN, 21 VBAT, 22 VDD_EXT, 23 VDD_LX, 24 VDD_SENSE, 25 VDD-IO, 26 SDIO_DATA2, 27 SDIO_DATA3, 28 SDIO_DATA1, 29 SDIO_CLK, 30 SDIO_DATA0, 31 SDIO_CMD, 32 FEM_CTRL2, 33 FEM_CTRL1, 34 NC7, 35 WIRQ, 36 NC8, 37 HXTAL1, 38 HXTAL2, 39 VDD_ANA, 40 ANT, 41 EPAD